# EAGLE library part 429427320908 (library Wurth_Elektronik_Electromechanic_Switch_rev16b)
WS-ROTU 10x10mm right angle rotary Switch, 8 position, THT version Specification Rating: Switch:150mA, 24VDC Non-Switching: 400mA, 24VDC Contact Resistance Initial:80mΩ max. After life test: 200mΩ max. Insulation Resistance: min.100MΩ at 250VDC Dielectric Strength : 250VAC for 1 minute Operating Force:700g max. Life cycle: 10.000 steps Position: 8 Actuator: Arrow type Material Cover : PA66 UL 94V-0, color light grey Base: PA66 UL 94V-0, color black >Actuator: POM UL HB >Contact: Gold Plated >Terminal: Gold Plated <http://katalog.we-online.de/media/images/v2/Family_WS_RAT_10x10_THT_42942732091x_pf2.jpg> Details see: http://katalog.we-online.de/en/em/ROTU_10X10_WASHABLE_THT_RIGHT_ANGLED_ARROW_TYPE_PITCH_5_08 2016 (C) Würth Elektronik
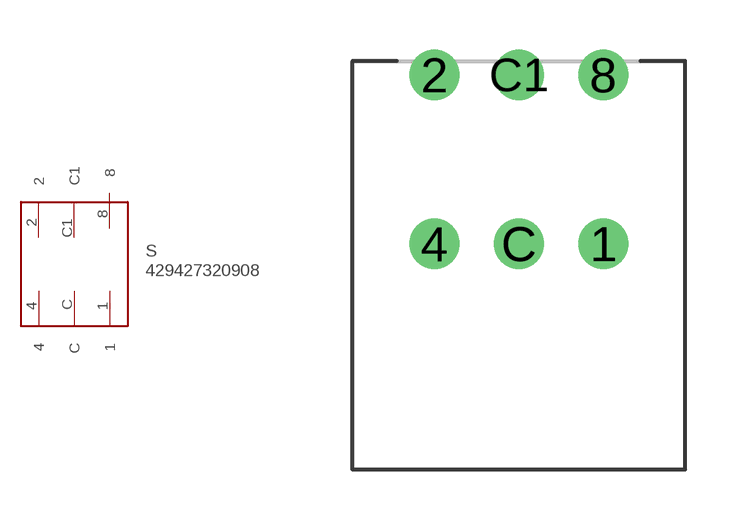
[diagram p183: symbol with the pads of 429427320908; footprint 429427320908]

Designator prefix S

## 429427320908  [429427320908]
1  1
2  2
4  4
8  8
C  C
C1  C1

## Footprint 429427320908 (pad centres in mm)
drill 1: 1 2.54,-2.54; 2 -2.54,2.54; 4 -2.54,-2.54; 8 2.54,2.54; C 0,-2.54; C1 0,2.54